# Altium footprint library ST7735.PcbLib: 5 footprints
Each footprint in its own frame and in the unit in brackets; x right, y up, seen from the top. Pads: shape width x height; smd on the part's side, far side on the other; paste and mask are expansions set on the pad; w line width, h text height; cw(c..) or ccw(c..) is an arc to the next point about the centre after c.
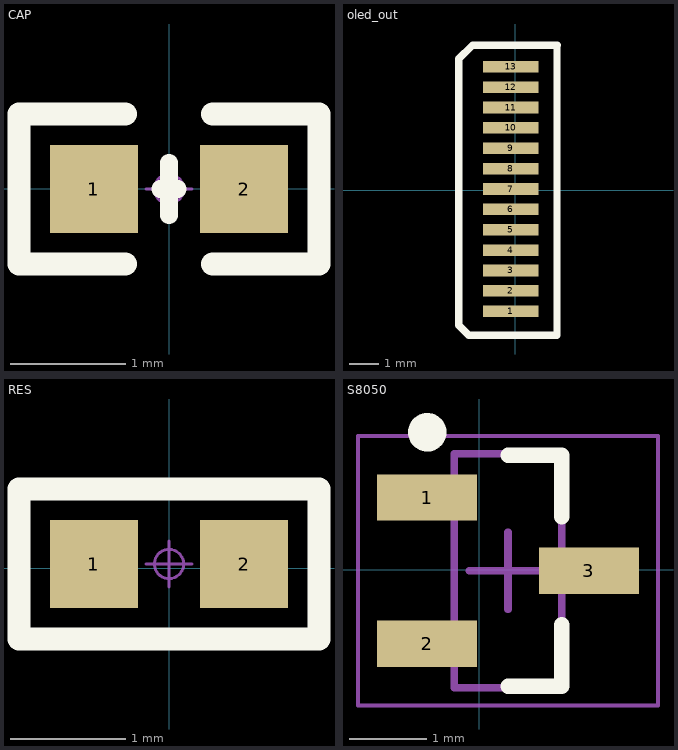
[diagram p0: the footprints below, top view; thin cyan lines are the x and y axes]

## CAP [mil]
pads (2):
  rect 30x30 smd: 1(-25.59,0) 2(25.59,0)
Top Overlay:
  lines w6: -3,0 0,0 3,0 ; 0,-9 0,9
  lines w8: -15,-25.59 -51.18,-25.59 -51.18,25.59 -15,25.59 ; 15,-25.59 51.18,-25.59 51.18,25.59 15,25.59
Mechanical 15:
  circle w1: c0,0 r5
  lines w1: -7.87,0 7.87,0 ; 0,-7.87 0,7.87
3D body "C 0603.STEP": height 32.89, standoff 0.61, extent -31.49,-16.14 31.5,16.14

## JIEKOU [mil]

## oled_out [mil]
pads (13):
  rect 75x15.7 smd: 1(-5.6,-163.3) 2(-5.6,-135.8) 3(-5.6,-108.3) 4(-5.6,-80.8) 5(-5.6,-53.3) 6(-5.6,-25.8) 7(-5.6,1.7) 8(-5.6,29.2) 9(-5.6,56.7) 10(-5.6,84.2) 11(-5.6,111.7) 12(-5.6,139.2) 13(-5.6,166.7)
Top Overlay:
  lines w10: -58.9,194.3 -75.9,177.3 -75.9,-182.2 -62.6,-195.5 56.5,-195.5 56.5,195.6 56.7,195.8 -57.4,195.8

## RES [mil]
pads (2):
  rect 30x30 smd: 1(-25.67,1.45) 2(25.51,1.45)
Top Overlay:
  lines w8: -51.26,-24.14 -51.26,27.04 51.1,27.04 51.1,-24.14 -51.26,-24.14
Mechanical 15:
  circle w1: c-0.08,1.46 r5
  lines w1: -7.95,1.46 7.8,1.46 ; -0.08,-6.42 -0.08,9.33
3D body "R0603.STEP": height 15.79, standoff 0, extent -31.57,-14.28 31.43,17.21

## S8050 [mm]
pads (3):
  rect 1.3x0.6 smd: 1(-0.678,0.935) 2(-0.678,-0.965) 3(1.422,-0.015)
Top Overlay:
  circle w0.25: c-0.678,1.785 r0.125
  lines w0.2: 0.372,-1.515 1.072,-1.515 1.072,-0.715 ; 0.372,1.485 1.072,1.485 1.072,0.685
Mechanical 13:
  lines w0.1: -0.328,-1.535 -0.328,1.505 1.072,1.505 1.072,-1.535 -0.328,-1.535
Mechanical 15:
  lines w0.05: -1.578,-1.765 -1.578,1.735 2.322,1.735 2.322,-1.765 -1.578,-1.765
  lines w0.1: -0.128,-0.015 0.872,-0.015 ; 0.372,-0.515 0.372,0.485
3D body "SOT23-3-2.STEP": height 1.05, standoff 0, extent -0.828,-1.515 1.572,1.485